# Altium schematic symbol library MMBT3906.Schlib: 1 symbol
Pins are listed as number, name and electrical type; pins without a type are passive.

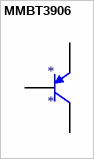
[diagram p0: symbol MMBT3906]

## MMBT3906
designator *
pins: 1 C, 2 B, 3 E